# Altium integrated library MAX17690ATE+.IntLib: 1 symbol
Pins are listed as number, name and electrical type; pins without a type are passive.

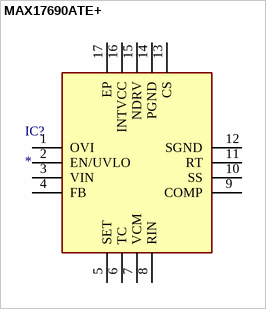
[diagram p0: symbol MAX17690ATE+]

## MAX17690ATE+
designator IC?
Integrated Circuit; Manufacturer_Name: Maxim Integrated; Manufacturer_Part_Number: MAX17690ATE+; Datasheet Link: https://componentsearchengine.com/Datasheets/1/MAX17690ATE+.pdf; Height: 0.8mm; Mouser Part Number: 700-MAX17690ATE+; Mouser Price/Stock: https://www.mouser.com/Search/Refine.aspx?Keyword=700-MAX17690ATE%2B
footprint QFN50P300X300X80-17N
pins: 1 OVI, 2 EN/UVLO, 3 VIN, 4 FB, 5 SET, 6 TC, 7 VCM, 8 RIN, 9 COMP, 10 SS, 11 RT, 12 SGND, 13 CS, 14 PGND, 15 NDRV, 16 INTVCC, 17 EP